# Altium footprint library FCI.PcbLib: 1 footprints
Each footprint in its own frame and in the unit in brackets; x right, y up, seen from the top. Pads: shape width x height; smd on the part's side, far side on the other; paste and mask are expansions set on the pad; w line width, h text height; cw(c..) or ccw(c..) is an arc to the next point about the centre after c.
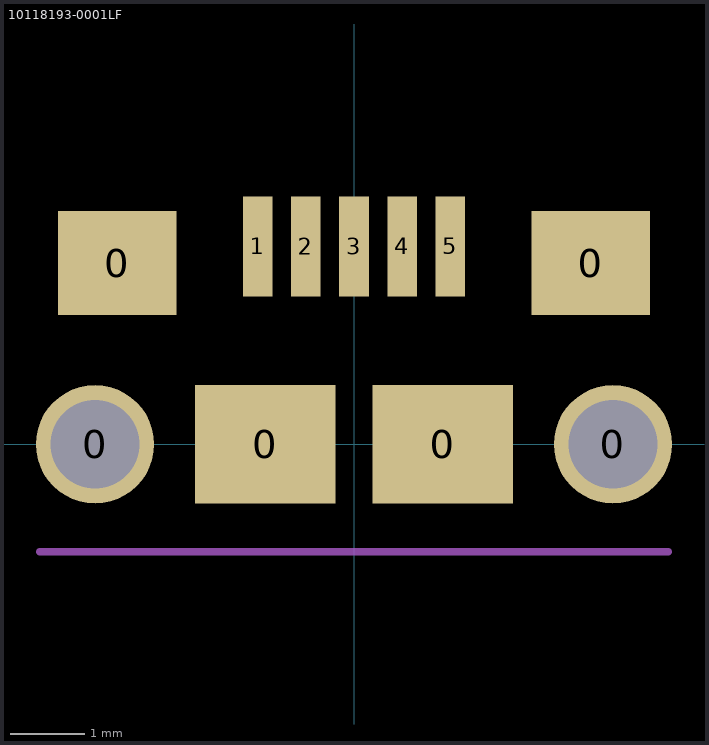
[diagram p0: the footprint, top view; thin cyan lines are the x and y axes]

## 10118193-0001LF [mm]
pads (11):
  round 1.6 hole 1.2: 0(-3.5,0) 0(3.5,0)
  rect 1.6x1.4 smd: 0(-3.2,2.45) 0(3.2,2.45)
  rect 1.9x1.6 smd: 0(-1.2,0) 0(1.2,0)
  rect 0.4x1.35 smd mask+0.051: 1(-1.3,2.675) 2(-0.65,2.675) 3(0,2.675) 4(0.65,2.675) 5(1.3,2.675)
Mechanical 15:
  lines w0.1: -4.25,-1.45 4.25,-1.45
3D body: height 2.88, standoff -0.72, extent -3.928,-2.8 3.929,2.86